# Altium footprint library USB2.0_HUB_Diode.PcbLib: 2 footprints
Each footprint in its own frame and in the unit in brackets; x right, y up, seen from the top. Pads: shape width x height; smd on the part's side, far side on the other; paste and mask are expansions set on the pad; w line width, h text height; cw(c..) or ccw(c..) is an arc to the next point about the centre after c.
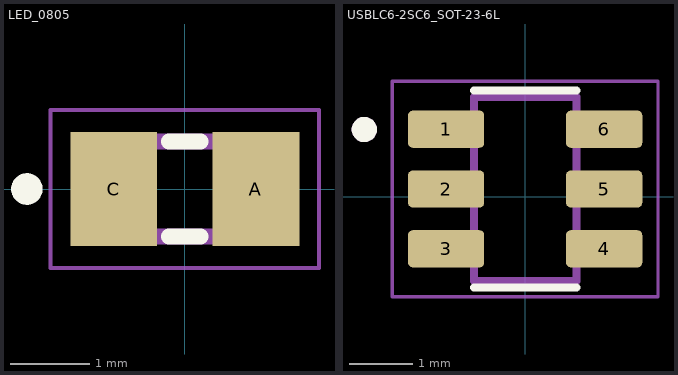
[diagram p0: the footprints below, top view; thin cyan lines are the x and y axes]

## LED_0805 [mm]
pads (2):
  rect 1.1x1.45 smd: A(0.9,0) C(-0.9,0)
Top Overlay:
  circle w0.2: c-2,0 r0.1
  lines w0.2: -0.2,-0.6 0.2,-0.6 ; -0.2,0.6 0.2,0.6
Mechanical 13:
  region: -0.5,-0.6 -1,-0.6 -1,0.6 -0.5,0.6
  region: 1,-0.6 0.5,-0.6 0.5,0.6 1,0.6
  lines w0.2: -1,-0.6 1,-0.6 1,0.6 -1,0.6 -1,-0.6
Mechanical 15:
  lines w0.05: -1.7,-1 1.7,-1 1.7,1 -1.7,1 -1.7,-1
3D body "step_temp.STEP": height 0.9, standoff 0, extent -1,-0.65 1,0.65

## USBLC6-2SC6_SOT-23-6L [mm]
pads (6):
  rrect25% 1.21x0.59 smd: 1(-1.255,1.077) 2(-1.255,0.127) 3(-1.255,-0.823) 4(1.255,-0.823) 5(1.255,0.127) 6(1.255,1.077)
Top Overlay:
  circle w0.2: c-2.555,1.072 r0.1
  lines w0.127: -0.813,-1.438 0.813,-1.438 ; -0.813,1.692 0.813,1.692
Mechanical 13:
  circle w0.2: c-2.555,1.072 r0.1
  lines w0.127: -0.813,-1.335 -0.813,1.589 0.813,1.589 0.813,-1.335 -0.813,-1.335
Mechanical 15:
  lines w0.05: -2.11,-1.586 2.11,-1.586 2.11,1.84 -2.11,1.84 -2.11,-1.586
3D body "step_temp.STEP": height 0.4, standoff -1.05, extent -1.4,-1.335 1.4,1.589